# EAGLE library part ATTINY84A (library Atmel)
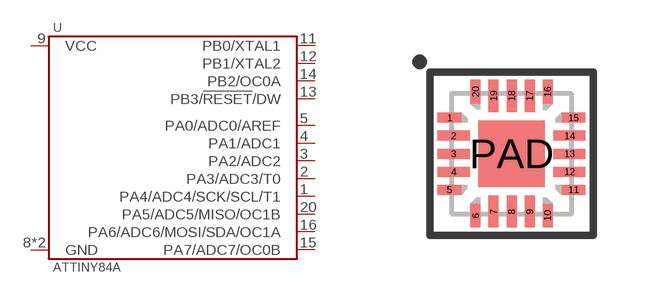
[diagram p32: symbol with the pads of VQFN-20-3MM; footprint VQFN-20-3MM]

Designator prefix U

## ATTINY84A-MMH  [VQFN-20-3MM]
1  PA4/ADC4/SCK/SCL/T1
2  PA3/ADC3/T0
3  PA2/ADC2
4  PA1/ADC1
5  PA0/ADC0/AREF
8  GND
9  VCC
11  PB0/XTAL1
12  PB1/XTAL2
13  PB3/!RESET!/DW
14  PB2/OC0A
15  PA7/ADC7/OC0B
16  PA6/ADC6/MOSI/SDA/OC1A
20  PA5/ADC5/MISO/OC1B
PAD  GND

## Footprint VQFN-20-3MM (pad centres in mm)
smd 0.6 x 0.25: 1 -1.55,0.9; 5 -1.55,-0.9; 11 1.55,-0.9; 15 1.55,0.9
smd 0.8 x 0.25: 2 -1.45,0.45; 3 -1.45,0; 4 -1.45,-0.45; 12 1.45,-0.45; 13 1.45,0; 14 1.45,0.45
smd 0.25 x 0.6: 6 -0.9,-1.55; 10 0.9,-1.55; 16 0.9,1.55; 20 -0.9,1.55
smd 0.25 x 0.8: 7 -0.45,-1.45; 8 0,-1.45; 9 0.45,-1.45; 17 0.45,1.45; 18 0,1.45; 19 -0.45,1.45
smd 1.65 x 1.65: PAD 0,0